# Altium schematic symbol library Schlib2.SchLib: 14 symbols
Pins are listed as number, name and electrical type; pins without a type are passive.

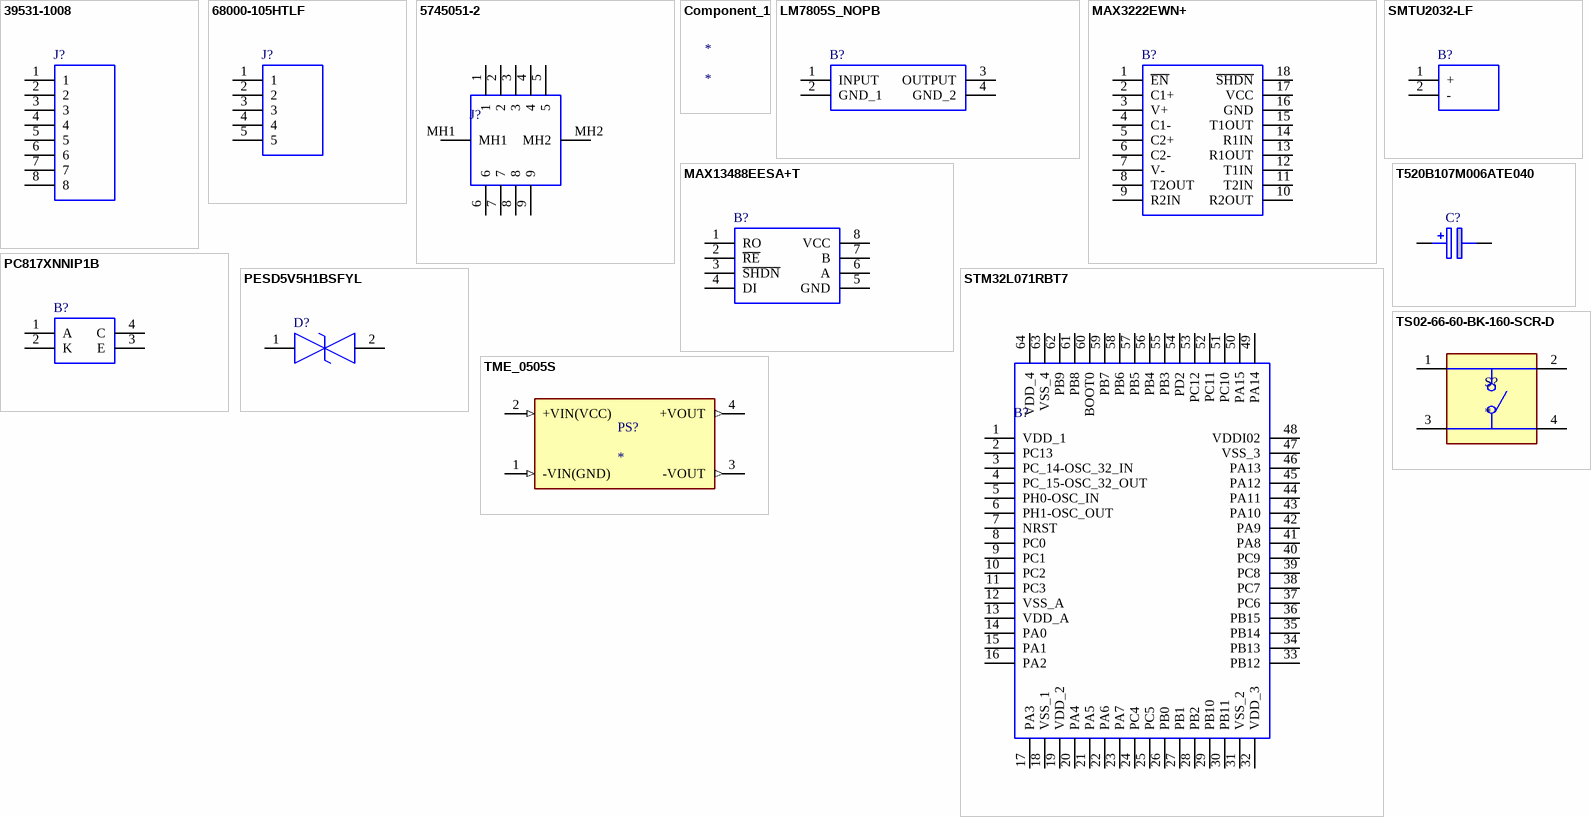
[diagram p0: symbols 39531-1008 to TS02-66-60-BK-160-SCR-D]

## 39531-1008
designator J?
Pluggable Terminal Blocks 5.08MM EURO HEADER VERT BLK 8CKT; Manufacturer_Name: Molex; Geometry.Height: 12.4mm; Mouser Part Number: 538-39531-1008; Mouser Price/Stock: https://www.mouser.co.uk/ProductDetail/Molex/39531-1008?qs=cJvWYcaovXy3iX%252BVkyK%252Bcg%3D%3D; Manufacturer_Part_Number: 39531-1008; Datasheet Link: https://www.molex.com/pdm_docs/sd/395311008_sd.pdf
footprint RHDR8W140P0X508_1X8_4264X830X1240P
pins: 1, 2, 3, 4, 5, 6, 7, 8

## 68000-105HTLF
designator J?
68000-105HTLF-B/S SR HDR 1*5; Manufacturer_Name: Amphenol Communication Solutions; Geometry.Height: 8.58mm; Mouser Part Number: 649-68000-105HTLF; Mouser Price/Stock: https://www.mouser.co.uk/ProductDetail/Amphenol-FCI/68000-105HTLF?qs=w%2Fv1CP2dgqrYgNyQVoiqDw%3D%3D; Manufacturer_Part_Number: 68000-105HTLF; Datasheet Link: https://cdn.amphenol-cs.com/media/wysiwyg/files/drawing/68000.pdf
footprint HDRV5W67P0X254_1X5_1270X241X858P
pins: 1, 2, 3, 4, 5

## 5745051-2
designator J?
HD-20 PLUG 9P VERT THD INS; Manufacturer_Name: TE Connectivity; Geometry.Height: 12.47mm; Mouser Part Number: 571-5745051-2; Mouser Price/Stock: https://www.mouser.co.uk/ProductDetail/TE-Connectivity/5745051-2?qs=FlGfrDooHc0LdF1RZqeXpw%3D%3D; Manufacturer_Part_Number: 5745051-2; Datasheet Link: https://www.te.com/commerce/DocumentDelivery/DDEController?Action=showdoc&DocId=Customer+Drawing%7F5745051%7FA1%7Fpdf%7FEnglish%7FENG_CD_5745051_A1.pdf%7F5745051-2
footprint 57450512 (Footprint not found)
pins: 1, 2, 3, 4, 5, 6, 7, 8, 9, MH1, MH2

## Component_1
designator *

## LM7805S_NOPB
designator B?
1.5-A, Wide VIN Fixed Voltage Regulators; Manufacturer_Name: Texas Instruments; Manufacturer_Part_Number: LM7805S/NOPB; Mouser Part Number: 595-LM7805S/NOPB; Mouser Price/Stock: https://www.mouser.co.uk/ProductDetail/Texas-Instruments/LM7805S-NOPB?qs=9V2QonpqdTu8D%252Bva6DasHQ%3D%3D; Datasheet Link: http://www.ti.com/lit/gpn/lm7800
footprint KTT0003B
pins: 1 INPUT, 2 GND_1, 3 OUTPUT, 4 GND_2

## MAX3222EWN+
designator B?
RS-232 Interface IC 3.0V to 5.5V, Low-Power, up to 1Mbps, True RS-232 Transceivers Using Four 0.1 uF External Capacitors; Manufacturer_Name: Maxim Integrated; Geometry.Height: 2.65mm; Mouser Part Number: 700-MAX3222EWN; Mouser Price/Stock: https://www.mouser.co.uk/ProductDetail/Maxim-Integrated/MAX3222EWN%2b?qs=CDqwynd4ZNrAONYHXo3EOQ%3D%3D; Manufacturer_Part_Number: MAX3222EWN+; Datasheet Link: https://pdfserv.maximintegrated.com/en/ds/MAX3222-MAX3241.pdf
footprint SOIC127P1032X265-18N
pins: 1 ~{EN}, 2 C1+, 3 V+, 4 C1-, 5 C2+, 6 C2-, 7 V-, 8 T2OUT, 9 R2IN, 10 R2OUT, 11 T2IN, 12 T1IN, 13 R1OUT, 14 R1IN, 15 T1OUT, 16 GND, 17 VCC, 18 ~{SHDN}

## MAX13488EESA+T
designator B?
MAXIM INTEGRATED PRODUCTS - MAX13488EESA+T - Transceiver RS422, RS485, 4.75V-5.25V supply, 1 Driver, NSOIC-8; Geometry.Height: 1.75mm; Mouser Part Number: 700-MAX13488EESAT; Mouser Price/Stock: https://www.mouser.co.uk/ProductDetail/Maxim-Integrated/MAX13488EESA%2bT?qs=CDqwynd4ZNrf75a2RFzJTw%3D%3D; Manufacturer_Name: Maxim Integrated; Manufacturer_Part_Number: MAX13488EESA+T; Datasheet Link: https://datasheets.maximintegrated.com/en/ds/MAX13487E-MAX13488E.pdf
footprint SOIC127P600X175-8N
pins: 1 RO, 2 ~{RE}, 3 ~{SHDN}, 4 DI, 5 GND, 6 A, 7 B, 8 VCC

## PC817XNNIP1B
designator B?
Transistor Output Optocouplers Photocoupler; Manufacturer_Name: Sharp Microelectronics; Geometry.Height: 4.2mm; Mouser Part Number: 852-PC817XNNIP1B; Mouser Price/Stock: https://www.mouser.co.uk/ProductDetail/Sharp-Microelectronics/PC817XNNIP1B?qs=rrS6PyfT74dJvnx7366b6Q%3D%3D; Manufacturer_Part_Number: PC817XNNIP1B; Datasheet Link: *
footprint SOP254P960X420-4N
pins: 1 A, 2 K, 3 E, 4 C

## PESD5V5H1BSFYL
designator D?
ESD Suppressors / TVS Diodes; Manufacturer_Name: Nexperia; Geometry.Height: 0.325mm; Mouser Part Number: 771-PESD5V5H1BSFYL; Mouser Price/Stock: https://www.mouser.co.uk/ProductDetail/Nexperia/PESD5V5H1BSFYL?qs=T3oQrply3y9CfA%2FMHqAcog%3D%3D; Manufacturer_Part_Number: PESD5V5H1BSFYL; Datasheet Link: https://assets.nexperia.com/documents/data-sheet/PESD5V0H1BSF.pdf
footprint PESD5V0H1BSFYL
pins: 1, 2

## SMTU2032-LF
designator B?
Coin Cell Battery Holders SFC MNT FOR CR2032; Manufacturer_Name: RENATA; Geometry.Height: 5mm; Mouser Part Number: 614-SMTU2032-LF; Mouser Price/Stock: https://www.mouser.co.uk/ProductDetail/Renata/SMTU2032-LF?qs=r1PAtlylphCLeXbokB9Tog%3D%3D; Manufacturer_Part_Number: SMTU2032-LF; Datasheet Link: https://componentsearchengine.com/Datasheets/1/SMTU2032-LF.pdf
footprint SMTU2032LF
pins: 1 +, 2 -

## STM32L071RBT7
designator B?
ARM Microcontrollers - MCU 16/32-BITS MICROS; Manufacturer_Name: STMicroelectronics; Geometry.Height: 1.6mm; Mouser Part Number: 511-STM32L071RBT7; Mouser Price/Stock: https://www.mouser.co.uk/ProductDetail/STMicroelectronics/STM32L071RBT7?qs=qzCNEk%252BRr%252BZjEtOUFC%252Bu7w%3D%3D; Manufacturer_Part_Number: STM32L071RBT7; Datasheet Link: http://www.st.com/content/ccc/resource/technical/document/datasheet/b5/24/80/11/51/59/47/f7/DM00141136.pdf/files/DM00141136.pdf/jcr:content/translations/en.DM00141136.pdf
footprint QFP50P1200X1200X160-64N
pins: 1 VDD_1, 2 PC13, 3 PC_14-OSC_32_IN, 4 PC_15-OSC_32_OUT, 5 PH0-OSC_IN, 6 PH1-OSC_OUT, 7 NRST, 8 PC0, 9 PC1, 10 PC2, 11 PC3, 12 VSS_A, 13 VDD_A, 14 PA0, 15 PA1, 16 PA2, 17 PA3, 18 VSS_1, 19 VDD_2, 20 PA4, 21 PA5, 22 PA6, 23 PA7, 24 PC4, 25 PC5, 26 PB0, 27 PB1, 28 PB2, 29 PB10, 30 PB11, 31 VSS_2, 32 VDD_3, 33 PB12, 34 PB13, 35 PB14, 36 PB15, 37 PC6, 38 PC7, 39 PC8, 40 PC9, 41 PA8, 42 PA9, 43 PA10, 44 PA11, 45 PA12, 46 PA13, 47 VSS_3, 48 VDDI02, 49 PA14, 50 PA15, 51 PC10, 52 PC11, 53 PC12, 54 PD2, 55 PB3, 56 PB4, 57 PB5, 58 PB6, 59 PB7, 60 BOOT0, 61 PB8, 62 PB9, 63 VSS_4, 64 VDD_4

## T520B107M006ATE040
designator C?
T520, Tantalum, Polymer Tantalum, Commercial Grade, 100 uF, 20%, 6.3 VDC, 105C, -55C, 105C, SMD, Polymer, Molded, Low ESR, Non-Combustible, 2,000 Hrs, 8 % , 40 mOhms, 63 uA, 94.85 mg, 3528, 1.9mm, Height Max = 2mm, 2000, 52  Weeks; Manufacturer_Name: KEMET; Mouser Part Number: 80-T520B107M6ATE40; Mouser Price/Stock: https://www.mouser.co.uk/ProductDetail/KEMET/T520B107M006ATE040?qs=A%2FUypIgi4aDLVIJ%2FABrGAw%3D%3D; Manufacturer_Part_Number: T520B107M006ATE040; Datasheet Link: https://content.kemet.com/datasheets/KEM_T2076_T52X-530.pdf; Geometry.Height: 2mm
footprint T520B
pins: 1 +, 2 -

## TME_0505S
designator PS?
1 Watt DC/DC converter, industrial, 10% input, unregulated, encapsulated, SIP-4 package; MF: Traco Power; MP: TME 0505S; Value: *; Price: None; Package: SIP-4 Traco Power; SnapEDA_Link: https://www.snapeda.com/parts/TME%200505S/Traco%20Power/view-part/521108/?ref=snap; Check_prices: https://www.snapeda.com/parts/TME%200505S/Traco%20Power/view-part/521108/?ref=eda; Availability: In Stock; Purchase-URL: https://pricing.snapeda.com/search/part/TME 0505S/?ref=eda
footprint CONV_TME_0505S
pins: 1 -VIN(GND) (in), 2 +VIN(VCC) (in), 3 -VOUT (out), 4 +VOUT (out)

## TS02-66-60-BK-160-SCR-D
designator S?
MP: TS02-66-60-BK-160-SCR-D; Price: None; Availability: Unavailable; Package: None; Value: *
footprint SW_TS02-66-60-BK-160-SCR-D
pins: 1, 2, 3, 4